# EAGLE library part SFS2 (library Panasonic Relay)
SFS - 2 Form A 2 Form B Data sheet <https://www.panasonic-electric-works.com/eu/download.htm?id=55742> Parameters Max. switching voltage: 250V AC, 30V DC Max. switching current: 6A (Reduce by 0.1 A/C for temperatures 70 to 85C) Operational function: Contact arrangement: 2 NO/ 2 NC, 3 NO / 1 NC, 4 NO / 2 NC, 5 NO / 1 NC, 3 NO / 3 NC Applications Machine tools Robots Safety PLCs Circuits with stringent safety standard requirements such as those in motor vehicle production equipment Options Available with and without LED indication
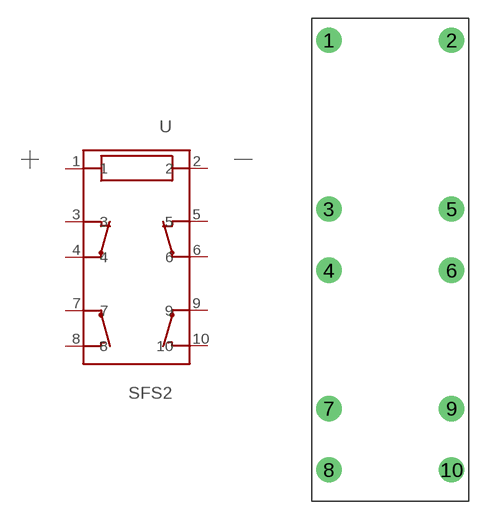
[diagram p38: symbol with the pads of SFS_4; footprint SFS_4]

Designator prefix -

## SFS2-DC12V (U_COIL: 12V DC), SFS2-DC18V (U_COIL: 18V DC), SFS2-DC21V (U_COIL: 21V DC), SFS2-DC24V (U_COIL: 24V DC), SFS2-DC48V (U_COIL: 48V DC)  [SFS_4]
1  1
2  2
3  3
4  4
5  5
6  6
7  7
8  8
9  9
10  10

## Footprint SFS_4 (pad centres in mm)
drill 1.4: 1 -5.08,18.17; 2 5.08,18.17; 3 -5.08,4.2; 4 -5.08,-0.88; 5 5.08,4.2; 6 5.08,-0.88; 7 -5.08,-12.31; 8 -5.08,-17.39; 9 5.08,-12.31; 10 5.08,-17.39